# Altium footprint library Conectors.PcbLib: 137 footprints (part 2 of 9)
Each footprint in its own frame and in the unit in brackets; x right, y up, seen from the top. Pads: shape width x height; smd on the part's side, far side on the other; paste and mask are expansions set on the pad; w line width, h text height; cw(c..) or ccw(c..) is an arc to the next point about the centre after c.
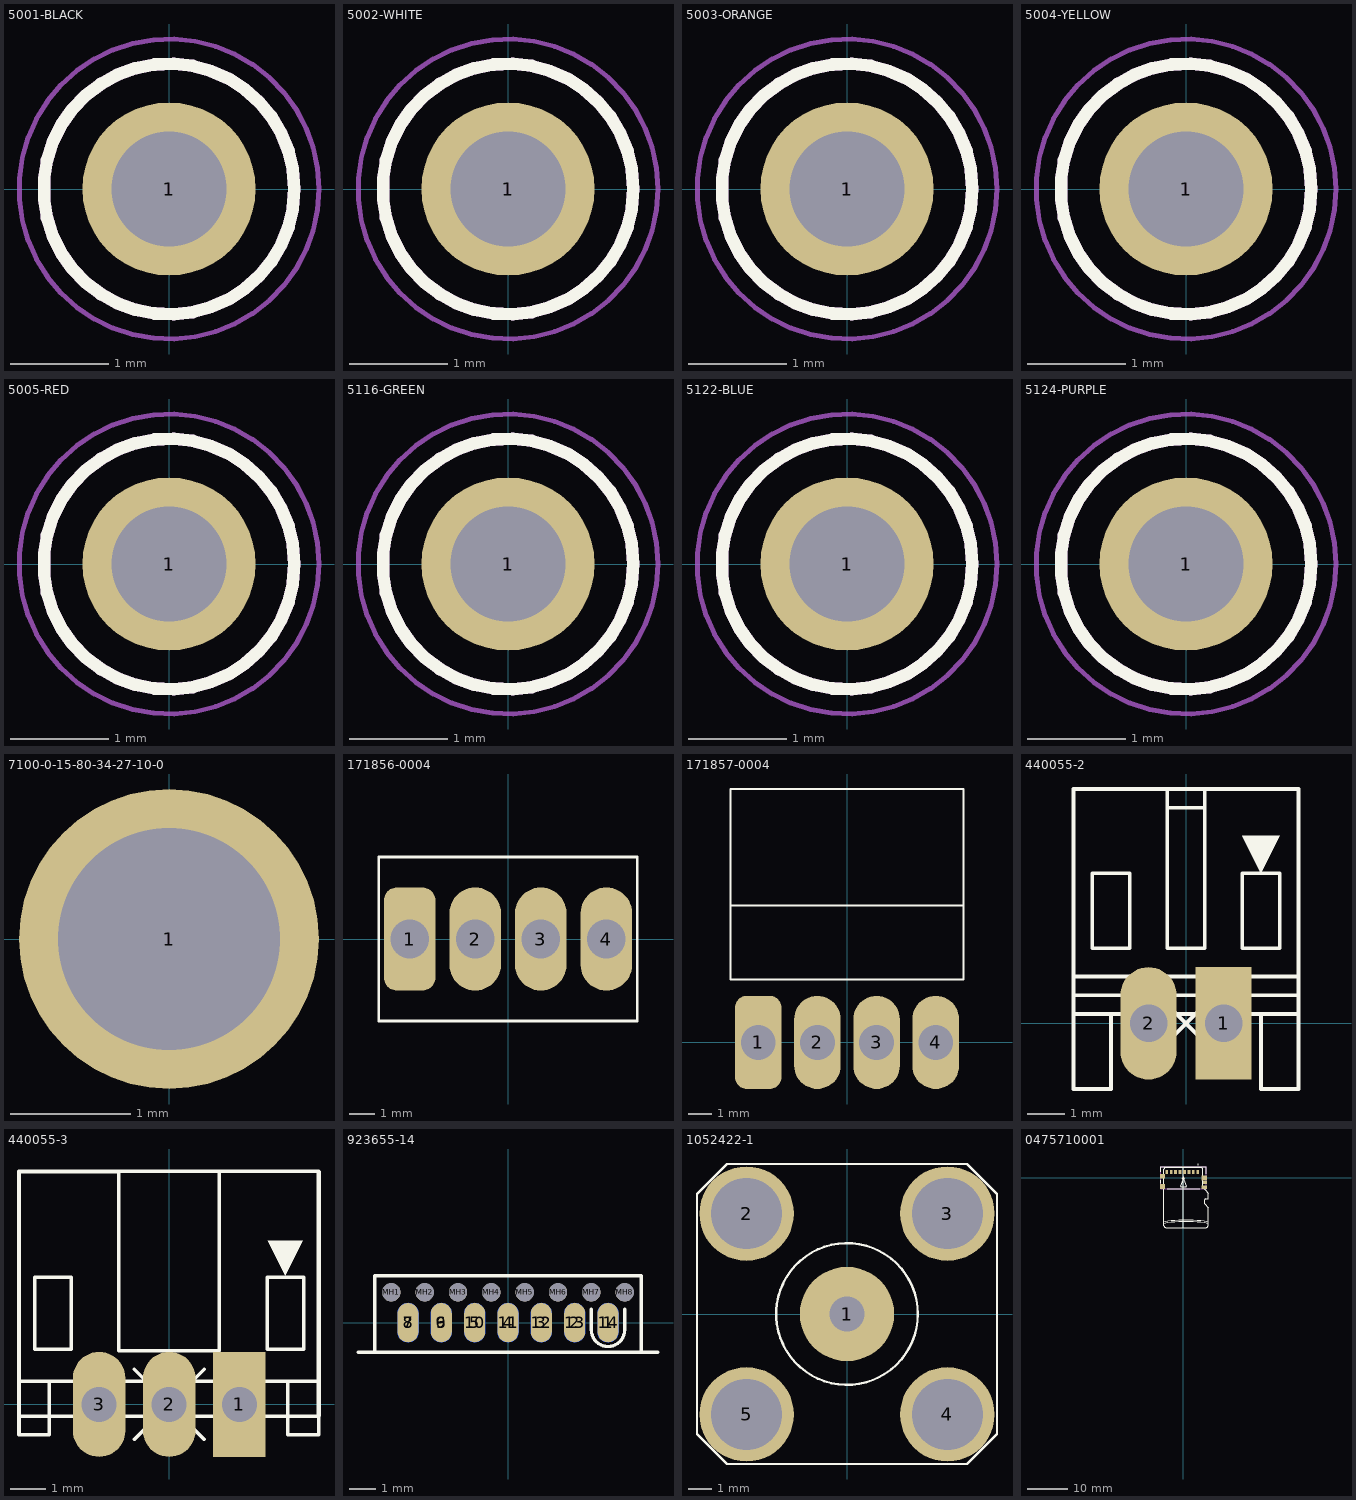
[diagram p1: the footprints below, top view; thin cyan lines are the x and y axes]

## 5001-BLACK [mm]
pads (1):
  round 1.755 hole 1.17: 1(0,0)
Top Overlay:
  circle w0.127: c0,0 r1.27
Mechanical 13:
  circle w0.127: c0,0 r1.27
Mechanical 15:
  circle w0.05: c0,0 r1.52
3D body "User Library-Test Point Keystone - 5001 BLACK.STEP": height 4.57, standoff -3.05, extent -1.27,-1.27 1.27,1.27

## 5002-WHITE [mm]
pads (1):
  round 1.755 hole 1.17: 1(0,0)
Top Overlay:
  circle w0.127: c0,0 r1.27
Mechanical 13:
  circle w0.127: c0,0 r1.27
Mechanical 15:
  circle w0.05: c0,0 r1.52
3D body "5002--3DModel-STEP-56544.STEP": height 4.57, standoff -3.05, extent -1.27,-1.27 1.27,1.27

## 5003-ORANGE [mm]
pads (1):
  round 1.755 hole 1.17: 1(0,0)
Top Overlay:
  circle w0.127: c0,0 r1.27
Mechanical 13:
  circle w0.127: c0,0 r1.27
Mechanical 15:
  circle w0.05: c0,0 r1.52
3D body "5003--3DModel-STEP-56544.STEP": height 4.57, standoff -3.05, extent -1.27,-1.27 1.27,1.27

## 5004-YELLOW [mm]
pads (1):
  round 1.755 hole 1.17: 1(0,0)
Top Overlay:
  circle w0.127: c0,0 r1.27
Mechanical 13:
  circle w0.127: c0,0 r1.27
Mechanical 15:
  circle w0.05: c0,0 r1.52
3D body "5003--3DModel-STEP-56544.STEP": height 4.57, standoff -3.05, extent -1.27,-1.27 1.27,1.27

## 5005-RED [mm]
pads (1):
  round 1.755 hole 1.17: 1(0,0)
Top Overlay:
  circle w0.127: c0,0 r1.27
Mechanical 13:
  circle w0.127: c0,0 r1.27
Mechanical 15:
  circle w0.05: c0,0 r1.52
3D body "5003--3DModel-STEP-56544.STEP": height 4.57, standoff -3.05, extent -1.27,-1.27 1.27,1.27

## 5116-GREEN [mm]
pads (1):
  round 1.755 hole 1.17: 1(0,0)
Top Overlay:
  circle w0.127: c0,0 r1.27
Mechanical 13:
  circle w0.127: c0,0 r1.27
Mechanical 15:
  circle w0.05: c0,0 r1.52
3D body "5003--3DModel-STEP-56544.STEP": height 4.57, standoff -3.05, extent -1.27,-1.27 1.27,1.27

## 5122-BLUE [mm]
pads (1):
  round 1.755 hole 1.17: 1(0,0)
Top Overlay:
  circle w0.127: c0,0 r1.27
Mechanical 13:
  circle w0.127: c0,0 r1.27
Mechanical 15:
  circle w0.05: c0,0 r1.52
3D body "5003--3DModel-STEP-56544.STEP": height 4.57, standoff -3.05, extent -1.27,-1.27 1.27,1.27

## 5124-PURPLE [mm]
pads (1):
  round 1.755 hole 1.17: 1(0,0)
Top Overlay:
  circle w0.127: c0,0 r1.27
Mechanical 13:
  circle w0.127: c0,0 r1.27
Mechanical 15:
  circle w0.05: c0,0 r1.52
3D body "5003--3DModel-STEP-56544.STEP": height 4.57, standoff -3.05, extent -1.27,-1.27 1.27,1.27

## 7100-0-15-80-34-27-10-0 [mm]
pads (1):
  round 2.5 hole 1.854: 1(0,0)
3D body "7100-0-15-80-34-27-10-0.step": height 1.37, standoff -3.2, extent -1.138,-1.126 1.122,1.117

## 171856-0004 [mm]
pads (4):
  rrect50% 2x4 hole 1.5: 1(-3.81,0)
  oval 2x4 hole 1.5: 2(-1.27,0) 3(1.27,0) 4(3.81,0)
Top Overlay:
  lines w0.1: -5,-3.175 -5,3.175 5,3.175 5,-3.175 -5,-3.175
3D body "1718560004.stp": height 12.03, standoff -0.92, extent -5.004,-3.175 5.004,3.175

## 171857-0004 [mm]
pads (4):
  rrect50% 2x4 hole 1.5: 1(-3.81,0)
  oval 2x4 hole 1.5: 2(-1.27,0) 3(1.27,0) 4(3.81,0)
Top Overlay:
  lines w0.1: -5,5.88 5,5.88 ; -5,2.7 -5,10.88 5,10.88 5,2.7 -5,2.7
3D body "1718570004.stp": height 6.4, standoff -2.49, extent -5.004,-0.381 5.004,13.284

## 440055-2 [mm] "CONN HEADER 2POS R/A 2MM T/H"
pads (2):
  rect 1.5x3 hole 1: 1(1,0)
  oval 1.5x3 hole 1: 2(-1,0)
Top Overlay:
  region: 1.5,5 2.5,5 2,4
  lines w0.1: -3,0.25 3,0.25 ; -3,0.75 3,0.75 ; -3,1.25 2.5,1.25 3,1.25 ; -2,0.25 -2,-1.75 -3,-1.75 -3,6.25 3,6.25 3,-1.75 2,-1.75 2,0.25 ; -1,-1 1,1 ; -1,1 1,-1 ; -0.5,5.75 0.5,5.75 ; -0.5,6.25 -0.5,2 0.5,2 0.5,6.25 ; -2.5,2 -2.5,4 -1.5,4 -1.5,2 -2.5,2 ; 1.5,2 2.5,2 2.5,4 1.5,4 1.5,2

## 440055-3 [mm]
pads (3):
  rect 1.5x3 hole 1: 1(1.996,-0.007)
  oval 1.5x3 hole 1: 2(-0.004,-0.007) 3(-2.004,-0.007)
Top Overlay:
  region: 2.806,4.666 3.806,4.666 3.306,3.666
  lines w0.1: -4.283,-0.338 -4.283,6.638 -1.447,6.638 ; -4.275,0.654 3.381,0.654 3.381,-0.874 4.231,-0.874 4.257,-0.874 4.257,6.647 -4.291,6.647 -4.291,-0.874 -3.429,-0.874 ; -4.272,6.649 4.256,6.649 4.256,-0.33 ; -3.429,-0.875 -3.429,0.653 4.227,0.653 ; -1.007,-1.01 0.993,0.99 ; -1.007,0.99 0.993,-1.01 ; 1.403,1.527 -1.447,1.527 ; 1.424,1.527 1.424,6.649 ; 3.641,-0.343 -4.287,-0.343 4.261,-0.343 ; 4.271,-0.338 4.271,6.638 ; -1.447,1.527 -1.447,6.638 ; -1.447,1.527 -1.447,6.638 ; -3.843,1.567 -2.803,1.567 -2.803,3.618 -3.843,3.618 -3.843,1.567 ; 2.79,1.567 3.831,1.567 3.831,3.619 2.79,3.619 2.79,1.567
3D body: height 5, standoff 0.5, extent -4.293,0.672 4.274,1.534
3D body: height 5, standoff 4.7, extent -4.3,-0.335 4.248,6.66
3D body: height 5, standoff 0.5, extent 3.835,-0.326 4.249,6.644
3D body: height 5, standoff 0.5, extent -4.27,-0.319 -3.855,6.652
3D body: height 0.7, standoff 0.5, extent -4.252,-0.839 4.309,6.696

## 923655-14 [mil] "Test Clips 14P SOIC SMT NRW GLD"
pads (22):
  rrect100% 31.5x59.06 smd paste-19.68: 1(150,0) 2(100,0) 3(50,0) 4(0,0) 5(-50,0) 6(-100,0) 7(-150,0)
  rrect100% 31.5x59.06 smd far side paste-19.68: 8(-150,0) 9(-100,0) 10(-50,0) 11(0,0) 12(50,0) 13(100,0) 14(150,0)
  round 27.56 hole 27.56 unplated: MH1(-175,45.47) MH2(-125,45.47) MH3(-75,45.47) MH4(-25,45.47) MH5(25,45.47) MH6(75,45.47) MH7(125,45.47) MH8(175,45.47)
Top Overlay:
  lines w5: -225,-44.53 225,-44.53 ; -200,-44.53 -200,70.47 200,70.47 200,-44.53 ; 125,20.47 125,-10.78 ccw(c150,-10.78) 150,-35.78 ccw(c150,-10.78) 175,-10.78 ; 175,-10.78 175,20.47 175,-10.78

## 1052422-1 [mm] "SMA/SSMA 2052 0000 02,SMA FM JACK RECPT"
pads (5):
  round 4 hole 1.5: 1(0,0)
  round 4 hole 3: 2(-4.25,4.25) 3(4.25,4.25) 4(4.25,-4.25) 5(-4.25,-4.25)
Top Overlay:
  circle w0.1: c0,0 r3
  lines w0.1: -0.25,-0.25 0.25,0.25 ; -0.25,0.25 0.25,-0.25 ; -6.35,-5.08 -5.08,-6.35 5.08,-6.35 6.35,-5.08 6.35,5.08 5.08,6.35 -5.08,6.35 -6.35,5.08 -6.35,-5.08
3D body "1052422-1.stp": height 9.6, standoff -5, extent -6.35,-6.35 6.35,6.35

## 0475710001 [mm]
pads (13):
  rect 0.7x1 smd: 1(3.55,1.415) 2(2.45,1.415) 3(1.35,1.415) 4(0.25,1.415) 5(-0.85,1.415) 6(-1.95,1.415) 7(-3.05,1.415) 8(-4.15,1.415)
  rect 1.15x1.2 smd: G1(-5.225,0.365) G2(-5.225,-2.225)
  rect 1.4x1.2 smd: G3(5.2,-0.075)
  rect 1x0.7 smd: G4(5.4,-1.225)
  rect 1.4x0.9 smd: G5(5.2,-2.375)
Top Overlay:
  lines w0.1: -5.7,-1.4 -5.7,-0.6 ; -5.7,1.5 -5.7,2.725 5.7,2.725 5.7,1 ; -4,-2.725 4,-2.725 ; -0.25,-0.25 0.25,0.25 ; -0.25,0.25 0.25,-0.25 ; -4.865,-11.433 cw(c0.635,-40.925) 6.135,-11.433 ; -4.865,-11.433 -4.865,-11.062 ; -4.865,-11.433 -4.865,-11.925 ccw(c-4.365,-11.925) -4.365,-12.425 5.635,-12.425 ccw(c5.635,-11.925) 6.135,-11.925 6.135,-11.433 ; -4.865,-11.062 cw(c0.635,-40.925) 6.135,-11.062 ; -4.865,-11.062 -4.865,2.075 cw(c-4.365,2.075) -4.365,2.575 4.275,2.575 cw(c4.275,2.075) 4.775,2.075 4.775,-2.3 6.135,-3.921 6.135,-5.3 5.585,-5.3 ccw(c5.585,-5.55) 5.335,-5.55 5.335,-6.55 6.135,-7.503 6.135,-11.062 ; 6.135,-11.433 6.135,-11.062 ; -0.705,-2.108 ccw(c-0.613,-2.145) -0.613,-2.245 0.613,-2.245 ccw(c0.613,-2.145) 0.705,-2.108 0.093,-0.563 ccw(c0,-0.6) -0.093,-0.563 -0.705,-2.108
  lines w0.15: 0,-12.425 0,2.725
  lines w0.2: 3.5,3.3 ccw(c3.6,3.3) 3.7,3.3 ccw(c3.6,3.3) 3.5,3.3
Mechanical 13:
  lines w0.2: -5.7,-2.725 5.7,-2.725 5.7,2.725 -5.7,2.725 -5.7,-2.725
3D body "User Library-Micro_SD.step": height 2.45, standoff 1.47, extent -4.865,-12.425 6.135,2.575
3D body "User Library-475710001.step": height 2.31, standoff 0.02, extent -5.7,-2.725 5.7,2.725